# Altium schematic symbol library diode.SchLib: 15 symbols
Pins are listed as number, name and electrical type; pins without a type are passive.

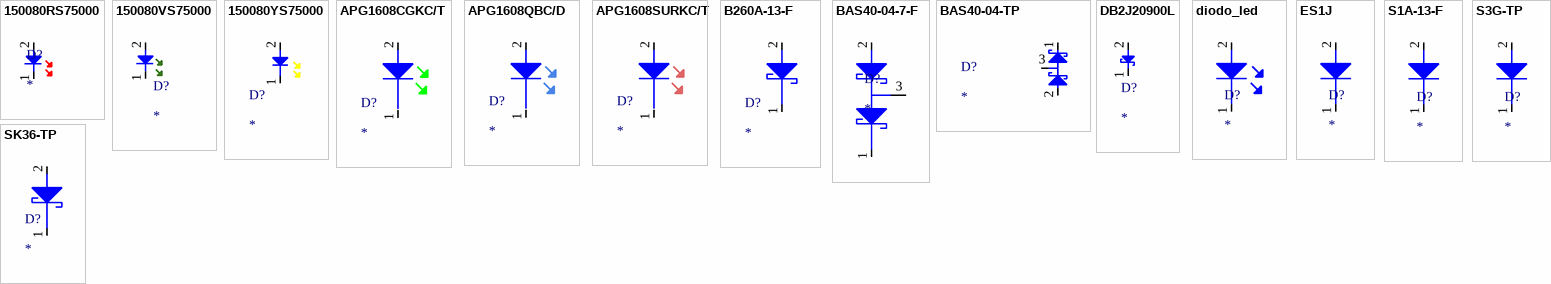
[diagram p0: symbols 150080RS75000 to SK36-TP]

## 150080RS75000
designator D?
SMD LED red 2.4 V 0805, 150080RS75000, Würth Elektronik; Manufacturer 1: Wurth Electronics; Luminous Intensity: 150mcd; Viewing Angle: 140°; Forward Voltage: 2V; Wavelength: 625nm; Lens Style: Clear,Rectangular; Forward Current: 30mA; Test Current: 20mA; Supplier 1: Digi-Key; Manufacturer Part Number 1: 150080RS75000; Stock 1: 26828; Pricing 1: 1=0,18000, 50=0,17100, 100=0,14700, 500=0,12700 (USD); RoHS: Yes; Mount: Surface Mount; Case/Package: 0805; Color: Red; Case Code (Metric): 2012; Case Code (Imperial): 0805; Min Operating Temperature: -40°C; Max Operating Temperature: 85°C; Package Quantity: 4000; Packaging: Tape and Reel; Dominant Wavelength: 625nm; Length: 2mm; Width: 1.25mm; Height: 0.7mm; REACH SVHC: Unknown; RoHS Compliant: Yes; ComponentLink1URL: https://datasheet.ciiva.com/22656/150080rs75000-22656961.pdf?src-supplier=Element14; ComponentLink1Description: https://datasheet.ciiva.com/22656/150080rs75000-22656961.pdf?src-supplier=Element14; ComponentLink2URL: https://datasheet.ciiva.com/29279/759435-da-01-en-chipled-0805-w-kl-rot-150080rs75000-29279032.pdf?src-supplier=Conrad; ComponentLink2Description: https://datasheet.ciiva.com/29279/759435-da-01-en-chipled-0805-w-kl-rot-150080rs75000-29279032.pdf?src-supplier=Conrad; Supplier Part Number 1: 732-4984-1-ND
footprint Diode smd 0805 red
pins: 1, 2

## 150080VS75000
designator D?
LED GREEN CLEAR 0805 SMD; Manufacturer 1: Wurth Electronics; Manufacturer Part Number 1: 150080VS75000; Luminous Intensity: 40mcd; Forward Current: 30mA; Forward Voltage: 2V; Viewing Angle: 140°; Wavelength: 570nm; Lens Style: Clear,Rectangular; Test Current: 20mA; Supplier 1: RSComponents; Stock 1: 13900; Pricing 1: 500=0,09600, 1000=0,09200, 2000=0,08700, 4000=0,08300 (GBP); RoHS: Yes; Mount: Surface Mount; Case/Package: 0805; Color: Green; Case Code (Metric): 2012; Case Code (Imperial): 0805; Min Operating Temperature: -40°C; Max Operating Temperature: 85°C; Package Quantity: 4000; Packaging: Tape and Reel; Dominant Wavelength: 570nm; Length: 2mm; Width: 1.25mm; Height: 0.7mm; REACH SVHC: Unknown; ComponentLink1URL: https://datasheet.ciiva.com/22656/150080vs75000-22656966.pdf?src-supplier=Element14; ComponentLink1Description: https://datasheet.ciiva.com/22656/150080vs75000-22656966.pdf?src-supplier=Element14; ComponentLink2URL: https://datasheet.ciiva.com/29279/759437-da-01-en-chipled-0805-w-kl-h-gruen-150080vs7500-29279047.pdf?src-supplier=Conrad; ComponentLink2Description: https://datasheet.ciiva.com/29279/759437-da-01-en-chipled-0805-w-kl-h-gruen-150080vs7500-29279047.pdf?src-supplier=Conrad; ComponentLink3URL: https://datasheet.ciiva.com/29563/150080vs75000-29563018.pdf?src-supplier=Digi-Key; ComponentLink3Description: https://datasheet.ciiva.com/29563/150080vs75000-29563018.pdf?src-supplier=Digi-Key; Supplier Part Number 1: 8154237P
footprint Diode smd 0805 green
pins: 1, 2

## 150080YS75000
designator D?
LED YELLOW CLEAR 0805 SMD; Manufacturer 1: Wurth Electronics; Manufacturer Part Number 1: 150080YS75000; Luminous Intensity: 120mcd; Forward Current: 30mA; Forward Voltage: 2V; Viewing Angle: 140°; Wavelength: 590nm; Lens Style: Clear,Rectangular; Test Current: 20mA; Supplier 1: RSComponents; Stock 1: 9250; Pricing 1: 500=0,09600, 750=0,09200, 1500=0,08700, 3000=0,08300 (GBP); RoHS: Yes; Mount: Surface Mount; Case/Package: 0805; Color: Yellow; Case Code (Metric): 2012; Case Code (Imperial): 0805; Min Operating Temperature: -40°C; Max Operating Temperature: 85°C; Package Quantity: 4000; Packaging: Tape and Reel; Dominant Wavelength: 590nm; Length: 2mm; Width: 1.25mm; Height: 0.7mm; REACH SVHC: Unknown; RoHS Compliant: Yes; ComponentLink1URL: https://datasheet.ciiva.com/23843/150080ys75000-23843256.pdf?src-supplier=Newark; ComponentLink1Description: https://datasheet.ciiva.com/23843/150080ys75000-23843256.pdf?src-supplier=Newark; ComponentLink2URL: https://datasheet.ciiva.com/29279/759438-da-01-en-chipled-0805-w-kl-gelb-150080ys75000-29279034.pdf?src-supplier=Conrad; ComponentLink2Description: https://datasheet.ciiva.com/29279/759438-da-01-en-chipled-0805-w-kl-gelb-150080ys75000-29279034.pdf?src-supplier=Conrad; ComponentLink3URL: https://datasheet.ciiva.com/29563/150080ys75000-29563019.pdf?src-supplier=Digi-Key; ComponentLink3Description: https://datasheet.ciiva.com/29563/150080ys75000-29563019.pdf?src-supplier=Digi-Key; ComponentLink4URL: https://datasheet.ciiva.com/29563/150080ys75000-29563020.pdf?src-supplier=Digi-Key; ComponentLink4Description: https://datasheet.ciiva.com/29563/150080ys75000-29563020.pdf?src-supplier=Digi-Key; ComponentLink5URL: https://datasheet.ciiva.com/29563/150080ys75000-29563021.pdf?src-supplier=Digi-Key; ComponentLink5Description: https://datasheet.ciiva.com/29563/150080ys75000-29563021.pdf?src-supplier=Digi-Key; ComponentLink6URL: https://datasheet.ciiva.com/22656/1911353-22656971.pdf?src-supplier=Element14; ComponentLink6Description: https://datasheet.ciiva.com/22656/1911353-22656971.pdf?src-supplier=Element14; Supplier Part Number 1: 8154231P
footprint Diode smd 0805 yellow
pins: 1, 2

## APG1608CGKC/T
designator D?
LED GREEN CLEAR CHIP SMD; Manufacturer 1: Kingbright; Manufacturer Part Number 1: APG1608CGKC/T; Lens Color: Colorless; Forward Voltage: 2.1V; Viewing Angle: 120°; Power Rating: 78mW; Luminous Intensity: 50mcd; Forward Current: 30mA; Test Current: 20mA; Dominant Wavelength: 570nm; Number of LEDs: 1; Supplier 1: Digi-Key; Stock 1: 165231; Pricing 1: 1=0,36000, 10=0,28500, 100=0,12820, 500=0,11576, 1000=0,09508, 2000=0,08268 (USD); RoHS: Yes; Case/Package: 0603; Number of Pins: 2; Color: Green; Case Code (Metric): 1608; Case Code (Imperial): 0603; Min Operating Temperature: -40°C; Max Operating Temperature: 85°C; Lens Style: Clear; Package Quantity: 2000; Illumination Color: Green; Packaging: Tape and Reel; Lens Transparency: Clear; Power Dissipation: 78mW; Series: -; Length: 1.6mm; Width: 0.8mm; Height: 0.28mm; Lead Free: Lead Free; RoHS Compliant: Yes; ComponentLink1URL: https://datasheet.ciiva.com/4689/apg1608cgkc-t-76846-4689371.pdf?src-supplier=Mouser; ComponentLink1Description: https://datasheet.ciiva.com/4689/apg1608cgkc-t-76846-4689371.pdf?src-supplier=Mouser; ComponentLink2URL: https://datasheet.ciiva.com/16223/apg1608cgkc-t-16223186.pdf?src-supplier=Future+Electronics; ComponentLink2Description: https://datasheet.ciiva.com/16223/apg1608cgkc-t-16223186.pdf?src-supplier=Future+Electronics; ComponentLink3URL: https://datasheet.ciiva.com/2113/apg1608cgkc-t-2113933.pdf?src-supplier=Digi-Key; ComponentLink3Description: https://datasheet.ciiva.com/2113/apg1608cgkc-t-2113933.pdf?src-supplier=Digi-Key; ComponentLink4URL: https://datasheet.ciiva.com/2113/apg1608cgkc-t-2113934.pdf?src-supplier=Digi-Key; ComponentLink4Description: https://datasheet.ciiva.com/2113/apg1608cgkc-t-2113934.pdf?src-supplier=Digi-Key; ComponentLink5URL: https://datasheet.ciiva.com/2113/apg1608cgkc-t-2113935.pdf?src-supplier=Digi-Key; ComponentLink5Description: https://datasheet.ciiva.com/2113/apg1608cgkc-t-2113935.pdf?src-supplier=Digi-Key; ComponentLink6URL: https://datasheet.ciiva.com/14604/70062819-14604010.pdf?src-supplier=Allied+Electronics; ComponentLink6Description: https://datasheet.ciiva.com/14604/70062819-14604010.pdf?src-supplier=Allied+Electronics; Supplier Part Number 1: 754-1357-1-ND
footprint Diode smd 0603 green
pins: 1, 2

## APG1608QBC/D
designator D?
LED BLUE CLEAR CHIP SMD; Manufacturer 1: Kingbright; Manufacturer Part Number 1: APG1608QBC/D; Lens Color: Colorless,Clear; Viewing Angle: 120°; Lens Style: Flat,Clear; Luminous Intensity: 100mcd; Forward Voltage: 3.3V; Forward Current: 20mA; Dominant Wavelength: 465nm; Number of LEDs: 1; Power Rating: 120mW; Supplier 1: Digi-Key; Stock 1: 95042; Pricing 1: 1=0,54000, 10=0,33100, 100=0,19020, 1000=0,14882, 2000=0,13642 (USD); RoHS: Yes; Mount: Surface Mount; Case/Package: 0603; Number of Pins: 2; Color: Blue; Case Code (Metric): 1608; Case Code (Imperial): 0603; Min Operating Temperature: -40°C; Max Operating Temperature: 85°C; Package Quantity: 1; Packaging: Tape and Reel; Illumination Color: Blue; Test Current: 20mA; Series: -; Lens Transparency: Clear; Length: 1.6mm; Width: 0.8mm; Height: 0.28mm; Lead Free: Lead Free; RoHS Compliant: Yes; ComponentLink1URL: https://datasheet.ciiva.com/2121/apg1608qbc-d-2121189.pdf?src-supplier=Digi-Key; ComponentLink1Description: https://datasheet.ciiva.com/2121/apg1608qbc-d-2121189.pdf?src-supplier=Digi-Key; ComponentLink2URL: https://datasheet.ciiva.com/4689/apg1608qbc-d-80547-4689391.pdf?src-supplier=Mouser; ComponentLink2Description: https://datasheet.ciiva.com/4689/apg1608qbc-d-80547-4689391.pdf?src-supplier=Mouser; ComponentLink3URL: https://datasheet.ciiva.com/2121/apg1608qbc-d-2121190.pdf?src-supplier=Digi-Key; ComponentLink3Description: https://datasheet.ciiva.com/2121/apg1608qbc-d-2121190.pdf?src-supplier=Digi-Key; ComponentLink4URL: https://datasheet.ciiva.com/2121/apg1608qbc-d-2121191.pdf?src-supplier=Digi-Key; ComponentLink4Description: https://datasheet.ciiva.com/2121/apg1608qbc-d-2121191.pdf?src-supplier=Digi-Key; ComponentLink5URL: https://datasheet.ciiva.com/16415/apg1608qbc-d-16415451.pdf?src-supplier=Future+Electronics; ComponentLink5Description: https://datasheet.ciiva.com/16415/apg1608qbc-d-16415451.pdf?src-supplier=Future+Electronics; ComponentLink6URL: https://datasheet.ciiva.com/14604/70062820-14604011.pdf?src-supplier=Allied+Electronics; ComponentLink6Description: https://datasheet.ciiva.com/14604/70062820-14604011.pdf?src-supplier=Allied+Electronics; Supplier Part Number 1: 754-1351-1-ND
footprint Diode smd 0603 blue
pins: 1, 2

## APG1608SURKC/T
designator D?
Kingbright APG1608SURKC/T, APG Series Red LED, 630 nm 1608 (0603) Clear, Rectangle Lens SMD package; Lens Color: Colorless; Power Rating: 75mW; Luminous Intensity: 110mcd; Viewing Angle: 120°; Forward Current: 20mA; Forward Voltage: 2.5V; Dominant Wavelength: 630nm; Number of LEDs: 1; Supplier 1: Digi-Key; Manufacturer 1: Kingbright; Manufacturer Part Number 1: APG1608SURKC/T; Stock 1: 90401; Pricing 1: 1=0,36000, 10=0,28500, 100=0,12820, 500=0,11576, 1000=0,09508, 2000=0,08268 (USD); RoHS: Yes; Case/Package: 0603; Number of Pins: 2; Color: Red; Case Code (Metric): 1608; Case Code (Imperial): 0603; Min Operating Temperature: -40°C; Max Operating Temperature: 85°C; Package Quantity: 2000; Illumination Color: Red; Lens Style: Clear; Packaging: Tape and Reel; Lens Transparency: Clear; Test Current: 20mA; Series: -; Length: 1.6mm; Width: 0.8mm; Height: 0.28mm; Lead Free: Lead Free; RoHS Compliant: Yes; ComponentLink1URL: https://datasheet.ciiva.com/2113/apg1608surkc-t-2113921.pdf?src-supplier=Digi-Key; ComponentLink1Description: https://datasheet.ciiva.com/2113/apg1608surkc-t-2113921.pdf?src-supplier=Digi-Key; ComponentLink2URL: https://datasheet.ciiva.com/4688/apg1608surkc-t-39642-4688887.pdf?src-supplier=Mouser; ComponentLink2Description: https://datasheet.ciiva.com/4688/apg1608surkc-t-39642-4688887.pdf?src-supplier=Mouser; ComponentLink3URL: https://datasheet.ciiva.com/2113/apg1608surkc-t-2113922.pdf?src-supplier=Digi-Key; ComponentLink3Description: https://datasheet.ciiva.com/2113/apg1608surkc-t-2113922.pdf?src-supplier=Digi-Key; ComponentLink4URL: https://datasheet.ciiva.com/2113/apg1608surkc-t-2113923.pdf?src-supplier=Digi-Key; ComponentLink4Description: https://datasheet.ciiva.com/2113/apg1608surkc-t-2113923.pdf?src-supplier=Digi-Key; ComponentLink5URL: https://datasheet.ciiva.com/16390/apg1608surkc-t-16390651.pdf?src-supplier=Future+Electronics; ComponentLink5Description: https://datasheet.ciiva.com/16390/apg1608surkc-t-16390651.pdf?src-supplier=Future+Electronics; Supplier Part Number 1: 754-1359-1-ND
footprint Diode smd 0603 red
pins: 1, 2

## B260A-13-F
designator D?
B260A Series 60 V 2 A Surface Mount Schottky Barrier Rectifier - SMA; Manufacturer 1: Diodes; Manufacturer Part Number 1: B260A-13-F; Forward Current: 2A; Max Repetitive Reverse Voltage (Vrrm): 60V; Element Configuration: Single; Forward Voltage: 700mV; Max Reverse Current: 500uA; Max Forward Surge Current (Ifsm): 50A; Polarity: Standard; Capacitance: 200pF; Supplier 1: Newark; Stock 1: 2000; Pricing 1: 5=0,49600, 10=0,37900, 25=0,32200, 50=0,26700, 100=0,21100, 250=0,19400, 500=0,17800, 1000=0,16000 (USD); RoHS: Yes; Mount: Surface Mount; Case/Package: SMA; Number of Pins: 2; Weight: 0.002258oz; Contact Plating: Tin,Matte; Min Operating Temperature: -65°C; Max Operating Temperature: 150°C; Packaging: Tape and Reel; Peak Non-Repetitive Surge Current: 50A; Package Quantity: 5000; Average Rectified Current: 2A; Termination: SMD/SMT; Voltage Rating (DC): 60V; Current Rating: 2A; Output Current: 2A; Max Reverse Voltage (DC): 60V; Series: -; Length: 4.6mm; Width: 2.92mm; Height: 2.1mm; Radiation Hardening: No; REACH SVHC: No SVHC; Lead Free: Lead Free; ComponentLink1URL: https://datasheet.ciiva.com/27052/1589515-27052632.pdf?src-supplier=Jameco; ComponentLink1Description: https://datasheet.ciiva.com/27052/1589515-27052632.pdf?src-supplier=Jameco; ComponentLink2URL: https://datasheet.ciiva.com/26949/getdatasheetpartid-143171-26949344.pdf?src-supplier=Verical; ComponentLink2Description: https://datasheet.ciiva.com/26949/getdatasheetpartid-143171-26949344.pdf?src-supplier=Verical; ComponentLink3URL: https://datasheet.ciiva.com/8303/ds13004-8303029.pdf?src-supplier=Avnet; ComponentLink3Description: https://datasheet.ciiva.com/8303/ds13004-8303029.pdf?src-supplier=Avnet; ComponentLink4URL: https://datasheet.ciiva.com/8303/ds13004-8303141.pdf?src-supplier=Avnet; ComponentLink4Description: https://datasheet.ciiva.com/8303/ds13004-8303141.pdf?src-supplier=Avnet
footprint Diode SMA
pins: 1, 2

## BAS40-04-7-F
designator D?
DIODE SCHOTTKY 40V 350MW SOT23-3; Manufacturer 1: Diodes; Manufacturer Part Number 1: BAS40-04-7-F; Forward Current: 200mA; Reverse Recovery Time: 5ns; Peak Non-Repetitive Surge Current: 600mA; Max Reverse Current: 200nA; Forward Voltage: 1V; Capacitance: 5pF; Supplier 1: RSComponents; Stock 1: 20000; Pricing 1: 250=0,07200, 500=0,07100, 1250=0,06800, 2500=0,06700 (GBP); RoHS: Yes; Mount: Surface Mount; Case/Package: SOT-23; Number of Pins: 3; Weight: 0.000282oz; Contact Plating: Tin,Matte; Min Operating Temperature: -55°C; Max Operating Temperature: 125°C; Max Repetitive Reverse Voltage (Vrrm): 40V; Package Quantity: 3000; Packaging: Tape and Reel; Max Power Dissipation: 350mW; Average Rectified Current: 200mA; Max Forward Surge Current (Ifsm): 600mA; Power Dissipation: 350mW; Power Rating: 350mW; Max Reverse Voltage (DC): 40V; Series: -; Termination: SMD/SMT; Length: 3.05mm; Width: 1.4mm; Height: 1mm; Radiation Hardening: No; REACH SVHC: No SVHC; Lead Free: Lead Free; RoHS Compliant: Yes; ComponentLink1URL: https://datasheet.ciiva.com/25946/ds11006-25946962.pdf?src-supplier=Avnet+Europe; ComponentLink1Description: https://datasheet.ciiva.com/25946/ds11006-25946962.pdf?src-supplier=Avnet+Europe; ComponentLink2URL: https://datasheet.ciiva.com/1177/ds11006-1177656.pdf?src-supplier=Element14; ComponentLink2Description: https://datasheet.ciiva.com/1177/ds11006-1177656.pdf?src-supplier=Element14; ComponentLink3URL: https://datasheet.ciiva.com/22695/1911827-22695788.pdf?src-supplier=Element14; ComponentLink3Description: https://datasheet.ciiva.com/22695/1911827-22695788.pdf?src-supplier=Element14; ComponentLink4URL: https://datasheet.ciiva.com/4715/ds11006-4715662.pdf?src-supplier=Mouser; ComponentLink4Description: https://datasheet.ciiva.com/4715/ds11006-4715662.pdf?src-supplier=Mouser; ComponentLink5URL: https://datasheet.ciiva.com/8303/ds11006-8303212.pdf?src-supplier=Avnet; ComponentLink5Description: https://datasheet.ciiva.com/8303/ds11006-8303212.pdf?src-supplier=Avnet; ComponentLink6URL: https://datasheet.ciiva.com/16379/ds11006-16379065.pdf?src-supplier=Future+Electronics; ComponentLink6Description: https://datasheet.ciiva.com/16379/ds11006-16379065.pdf?src-supplier=Future+Electronics
footprint SOT-23
pins: 1, 2, 3

## BAS40-04-TP
designator D?
DIODE ARRAY SCHOTTKY 40V SOT23; Manufacturer 1: MCC; Manufacturer Part Number 1: BAS40-04-TP; Max Surge Current: 600mA; Recovery Time: 5ns; Forward Current: 200mA; Forward Voltage: 1V; Max Reverse Leakage Current: 200nA; Power Dissipation: 200mW; Element Configuration: Single; Capacitance: 5pF; Supplier 1: Digi-Key; Stock 1: 0; Pricing 1: 1=0,26000, 10=0,21300, 100=0,11290, 500=0,07424, 1000=0,05049 (USD); RoHS: Yes; Mount: Surface Mount; Case/Package: SOT-23; Number of Pins: 3; Min Operating Temperature: -55°C; Max Operating Temperature: 125°C; Package Quantity: 3000; Packaging: Tape and Reel; Average Rectified Current: 200mA; Reverse Recovery Time: 5ns; Max Forward Surge Current (Ifsm): 600mA; Max Reverse Current: 200nA; Max Repetitive Reverse Voltage (Vrrm): 40V; Peak Non-Repetitive Surge Current: 600mA; Max Reverse Voltage (DC): 40V; Series: -; Length: 3.04mm; Width: 1.4mm; Height: 1.02mm; Radiation Hardening: No; REACH SVHC: Unknown; Lead Free: Lead Free; RoHS Compliant: Yes; ComponentLink1URL: https://datasheet.ciiva.com/4716/bas40-bas70sot-23-28891-4716000.pdf?src-supplier=Mouser; ComponentLink1Description: https://datasheet.ciiva.com/4716/bas40-bas70sot-23-28891-4716000.pdf?src-supplier=Mouser; ComponentLink2URL: https://datasheet.ciiva.com/23684/1684803-23684306.pdf?src-supplier=Newark; ComponentLink2Description: https://datasheet.ciiva.com/23684/1684803-23684306.pdf?src-supplier=Newark; ComponentLink3URL: https://datasheet.ciiva.com/906/bas40-bas70sot-23-906318.pdf?src-supplier=Digi-Key; ComponentLink3Description: https://datasheet.ciiva.com/906/bas40-bas70sot-23-906318.pdf?src-supplier=Digi-Key; ComponentLink4URL: https://datasheet.ciiva.com/906/bas40-bas70sot-23-906319.pdf?src-supplier=Digi-Key; ComponentLink4Description: https://datasheet.ciiva.com/906/bas40-bas70sot-23-906319.pdf?src-supplier=Digi-Key; ComponentLink5URL: https://datasheet.ciiva.com/906/bas40-bas70sot-23-906320.pdf?src-supplier=Digi-Key; ComponentLink5Description: https://datasheet.ciiva.com/906/bas40-bas70sot-23-906320.pdf?src-supplier=Digi-Key; ComponentLink6URL: https://datasheet.ciiva.com/7624/1684803-7624699.pdf?src-supplier=Element14; ComponentLink6Description: https://datasheet.ciiva.com/7624/1684803-7624699.pdf?src-supplier=Element14; ComponentLink7URL: https://datasheet.ciiva.com/15200/getdatasheetpartid-226544-15200426.pdf?src-supplier=Verical; ComponentLink7Description: https://datasheet.ciiva.com/15200/getdatasheetpartid-226544-15200426.pdf?src-supplier=Verical; Supplier Part Number 1: BAS40-04TPMSDKR-ND
footprint SOT-23
pins: 1, 2, 3

## DB2J20900L
designator D?
PANASONIC - DB2J20900L - Schottky Rectifier, 20 V, 500 mA, Single, SOD-323F, 2 Pins, 500 mV; Manufacturer 1: Panasonic SSG; Max Reverse Current: 30uA; Forward Current: 500mA; Reverse Recovery Time: 2.4ns; Max Repetitive Reverse Voltage (Vrrm): 20V; Max Forward Surge Current (Ifsm): 3A; Forward Voltage: 500mV; Supplier 1: Allied Electronics; Manufacturer Part Number 1: DB2J20900L; Stock 1: 0; Pricing 1: 1=0,17400, 100=0,16600, 200=0,15100, 400=0,13600, 1000=0,12100 (USD); RoHS: Yes; Mount: Surface Mount; Number of Pins: 2; Contact Plating: Tin; Min Operating Temperature: -55°C; Max Operating Temperature: 125°C; Package Quantity: 1; Packaging: Tape and Reel; Average Rectified Current: 500mA; Peak Non-Repetitive Surge Current: 3A; Element Configuration: Single; Max Reverse Voltage (DC): 20V; Length: 1.7mm; Width: 1.25mm; Height: 0.7mm; REACH SVHC: Unknown; Lead Free: Lead Free; RoHS Compliant: Yes; ComponentLink1URL: https://datasheet.ciiva.com/7964/db2j209-bed-7964194.pdf?src-supplier=Element14; ComponentLink1Description: https://datasheet.ciiva.com/7964/db2j209-bed-7964194.pdf?src-supplier=Element14; ComponentLink2URL: https://datasheet.ciiva.com/22650/db2j209-bed-22650026.pdf?src-supplier=Farnell; ComponentLink2Description: https://datasheet.ciiva.com/22650/db2j209-bed-22650026.pdf?src-supplier=Farnell; ComponentLink3URL: https://datasheet.ciiva.com/22659/1912053-22659242.pdf?src-supplier=Element14; ComponentLink3Description: https://datasheet.ciiva.com/22659/1912053-22659242.pdf?src-supplier=Element14; Supplier Part Number 1: 70358466
footprint Diode SMini2
pins: 1, 2

## diodo_led
designator D?
Red 5mm LED Lamp, 625 nm, 7200 mcd, Viewing Angle 15º; Manufacturer 1: American Opto Plus; Manufacturer Part Number 1: L513LEC-15D; Supplier 1: Digi-Key; Stock 1: 0; ComponentLink1URL: https://datasheet.octopart.com/L513LEC-15D-American-Opto-Plus-datasheet-127373734.pdf?src-supplier=DComponents; ComponentLink1Description: https://datasheet.octopart.com/L513LEC-15D-American-Opto-Plus-datasheet-127373734.pdf?src-supplier=DComponents; Supplier Part Number 1: 2225J5000392FFT-ND
footprint Diode led
pins: 1, 2

## ES1J
designator D?
Diode Switching 600V 1A 2-Pin DO-214AC T/R; Manufacturer 1: ON Semiconductor / Fairchild; Manufacturer Part Number 1: ES1J; Element Configuration: Single; Forward Voltage: 1.7V; Reverse Recovery Time: 35ns; Peak Non-Repetitive Surge Current: 30A; Max Reverse Current: 5uA; Supplier 1: Future Electronics; Stock 1: 117500; Pricing 1: 7500=0,12000, 15000=0,09710, 22500=0,09620, 30000=0,09560 (USD); RoHS: Yes; Mount: Surface Mount; Case/Package: DO-214AC; Number of Pins: 2; Contact Plating: Tin,Matte; Min Operating Temperature: -55°C; Max Operating Temperature: 150°C; Packaging: Tape and Reel; Max Repetitive Reverse Voltage (Vrrm): 600V; Average Rectified Current: 1A; Max Reverse Voltage (DC): 600V; Forward Current: 1A; Max Forward Surge Current (Ifsm): 30A; Package Quantity: 7500; Max Surge Current: 30A; Recovery Time: 35ns; Series: -; Termination: SMD/SMT; Reverse Voltage: 600V; Current: 1A; Voltage: 600V; Length: 4.6mm; Width: 2.896mm; Height: 2.438mm; Radiation Hardening: No; RoHS Compliant: Yes; REACH SVHC: No SVHC; Lead Free: Lead Free; ComponentLink1URL: https://datasheet.ciiva.com/30479/0900766b810e1d0a-30479414.pdf?src-supplier=RSComponents; ComponentLink1Description: https://datasheet.ciiva.com/30479/0900766b810e1d0a-30479414.pdf?src-supplier=RSComponents; ComponentLink2URL: https://datasheet.ciiva.com/910/es1f-910582.pdf?src-supplier=Digi-Key; ComponentLink2Description: https://datasheet.ciiva.com/910/es1f-910582.pdf?src-supplier=Digi-Key; ComponentLink3URL: https://datasheet.ciiva.com/910/es1f-910583.pdf?src-supplier=Digi-Key; ComponentLink3Description: https://datasheet.ciiva.com/910/es1f-910583.pdf?src-supplier=Digi-Key; ComponentLink4URL: https://datasheet.ciiva.com/8303/es1j-8303717.pdf?src-supplier=Avnet; ComponentLink4Description: https://datasheet.ciiva.com/8303/es1j-8303717.pdf?src-supplier=Avnet; ComponentLink5URL: https://datasheet.ciiva.com/25951/es1j-25951455.pdf?src-supplier=Avnet+Europe; ComponentLink5Description: https://datasheet.ciiva.com/25951/es1j-25951455.pdf?src-supplier=Avnet+Europe; Supplier Part Number 1: 5088984
footprint Diode SMA
pins: 1, 2

## S1A-13-F
designator D?
Diode Switching 50V 1A 2-Pin SMA T/R; Manufacturer 1: Diodes; Manufacturer Part Number 1: S1A-13-F; Element Configuration: Single; Reverse Recovery Time: 3us; Peak Non-Repetitive Surge Current: 30A; Max Reverse Current: 5uA; Forward Voltage: 1.1V; Recovery Time: 1.8us; Polarity: Standard; Capacitance: 10pF; Supplier 1: Digi-Key; Stock 1: 426421; Pricing 1: 1=0,27000, 10=0,22300, 100=0,11850, 500=0,07796, 1000=0,05301, 2000=0,04782 (USD); RoHS: Yes; Mount: Surface Mount; Case/Package: SMA; Number of Pins: 2; Weight: 0.002258oz; Min Operating Temperature: -65°C; Max Operating Temperature: 150°C; Forward Current: 1A; Max Repetitive Reverse Voltage (Vrrm): 50V; Packaging: Tape and Reel; Package Quantity: 5000; Max Surge Current: 30A; Reverse Voltage (DC): 50V; Average Rectified Current: 1A; Voltage Rating (DC): 50V; Current Rating: 1A; Output Current: 1A; Max Reverse Voltage (DC): 50V; Series: -; Max Forward Surge Current (Ifsm): 30A; Termination: SMD/SMT; Length: 4.6mm; Width: 2.92mm; Height: 2.1mm; Radiation Hardening: No; Lead Free: Lead Free; REACH SVHC: No SVHC; RoHS Compliant: Yes; ComponentLink1URL: https://datasheet.ciiva.com/911/ds16003-911872.pdf?src-supplier=Digi-Key; ComponentLink1Description: https://datasheet.ciiva.com/911/ds16003-911872.pdf?src-supplier=Digi-Key; ComponentLink2URL: https://datasheet.ciiva.com/27052/1541520-27052419.pdf?src-supplier=Jameco; ComponentLink2Description: https://datasheet.ciiva.com/27052/1541520-27052419.pdf?src-supplier=Jameco; ComponentLink3URL: https://datasheet.ciiva.com/4453/ds16003-83672-4453580.pdf?src-supplier=Mouser; ComponentLink3Description: https://datasheet.ciiva.com/4453/ds16003-83672-4453580.pdf?src-supplier=Mouser; ComponentLink4URL: https://datasheet.ciiva.com/8301/ds16003-8301429.pdf?src-supplier=Avnet; ComponentLink4Description: https://datasheet.ciiva.com/8301/ds16003-8301429.pdf?src-supplier=Avnet; ComponentLink5URL: https://datasheet.ciiva.com/16199/ds16003-16199336.pdf?src-supplier=Future+Electronics; ComponentLink5Description: https://datasheet.ciiva.com/16199/ds16003-16199336.pdf?src-supplier=Future+Electronics; ComponentLink6URL: https://datasheet.ciiva.com/25953/ds16003-25953033.pdf?src-supplier=Avnet+Europe; ComponentLink6Description: https://datasheet.ciiva.com/25953/ds16003-25953033.pdf?src-supplier=Avnet+Europe; ComponentLink7URL: https://datasheet.ciiva.com/22695/1911706-22695830.pdf?src-supplier=Element14; ComponentLink7Description: https://datasheet.ciiva.com/22695/1911706-22695830.pdf?src-supplier=Element14; Supplier Part Number 1: S1A-FDICT-ND
footprint Diode SMA
pins: 1, 2

## S3G-TP
designator D?
DIODE GEN PURP 400V 3A DO214AB; Manufacturer 1: MCC; Manufacturer Part Number 1: S3G-TP; Max Surge Current: 100A; Max Reverse Current: 10uA; Element Configuration: Single; Polarity: Standard; Capacitance: 60pF; Supplier 1: Digi-Key; Stock 1: 827; Pricing 1: 1=0,50000, 10=0,40300, 100=0,27460, 500=0,20592, 1000=0,15444 (USD); RoHS: Yes; Mount: Surface Mount; Case/Package: DO-214AB; Number of Pins: 2; Min Operating Temperature: -55°C; Max Operating Temperature: 150°C; Package Quantity: 1; Packaging: Tape and Reel; Average Rectified Current: 3A; Voltage Rating (DC): 400V; Current Rating: 3A; Output Current: 3A; Max Reverse Voltage (DC): 400V; Reverse Voltage: 400V; Lead Free: Lead Free; ComponentLink1URL: https://datasheet.ciiva.com/914/s3a-s3mdo-214ab-914528.pdf?src-supplier=Digi-Key; ComponentLink1Description: https://datasheet.ciiva.com/914/s3a-s3mdo-214ab-914528.pdf?src-supplier=Digi-Key; ComponentLink2URL: https://datasheet.ciiva.com/914/s3a-s3mdo-214ab-914527.pdf?src-supplier=Digi-Key; ComponentLink2Description: https://datasheet.ciiva.com/914/s3a-s3mdo-214ab-914527.pdf?src-supplier=Digi-Key; ComponentLink3URL: https://datasheet.ciiva.com/914/s3a-s3mdo-214ab-914529.pdf?src-supplier=Digi-Key; ComponentLink3Description: https://datasheet.ciiva.com/914/s3a-s3mdo-214ab-914529.pdf?src-supplier=Digi-Key; Supplier Part Number 1: S3G-TPMSCT-ND
footprint Diode smd SMC (DO-214AB)
pins: 1, 2

## SK36-TP
designator D?
Schottky Diodes & Rectifiers 60V 3A; Manufacturer 1: MCC; Manufacturer Part Number 1: SK36-TP; Max Surge Current: 100A; Forward Voltage: 750mV; Max Reverse Current: 20mA; Max Reverse Leakage Current: 500uA; Element Configuration: Single; Polarity: Standard; Capacitance: 250pF; Supplier 1: Digi-Key; Stock 1: 21110; Pricing 1: 1=0,47000, 10=0,40400, 100=0,30180, 500=0,23716, 1000=0,18326 (USD); RoHS: Yes; Mount: Surface Mount; Case/Package: DO-214AB; Number of Pins: 2; Min Operating Temperature: -55°C; Max Operating Temperature: 150°C; Packaging: Tape and Reel; Forward Current: 3A; Package Quantity: 1; Average Rectified Current: 3A; Peak Non-Repetitive Surge Current: 100A; Max Forward Surge Current (Ifsm): 100A; Max Repetitive Reverse Voltage (Vrrm): 60V; Voltage Rating (DC): 60V; Current Rating: 3A; Output Current: 3A; Max Reverse Voltage (DC): 60V; Length: 7.11mm; Width: 6.22mm; Height: 2.417mm; Lead Free: Lead Free; RoHS Compliant: Yes; ComponentLink1URL: https://datasheet.ciiva.com/914/sk32-sk310do-214ab-914263.pdf?src-supplier=Digi-Key; ComponentLink1Description: https://datasheet.ciiva.com/914/sk32-sk310do-214ab-914263.pdf?src-supplier=Digi-Key; ComponentLink2URL: https://datasheet.ciiva.com/914/sk32-sk310do-214ab-914264.pdf?src-supplier=Digi-Key; ComponentLink2Description: https://datasheet.ciiva.com/914/sk32-sk310do-214ab-914264.pdf?src-supplier=Digi-Key; ComponentLink3URL: https://datasheet.ciiva.com/914/sk32-sk310do-214ab-914265.pdf?src-supplier=Digi-Key; ComponentLink3Description: https://datasheet.ciiva.com/914/sk32-sk310do-214ab-914265.pdf?src-supplier=Digi-Key; ComponentLink4URL: https://datasheet.ciiva.com/17441/sk32-sk310do-214ab-17441977.pdf?src-supplier=Future+Electronics; ComponentLink4Description: https://datasheet.ciiva.com/17441/sk32-sk310do-214ab-17441977.pdf?src-supplier=Future+Electronics; Supplier Part Number 1: SK36-TPMSCT-ND
footprint Diode smd SMC (DO-214AB)
pins: 1, 2